# Altium schematic symbol library KAF21BR72D102KT.SchLib: 1 symbol
Pins are listed as number, name and electrical type; pins without a type are passive.

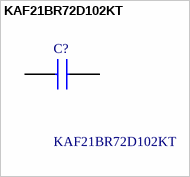
[diagram p0: symbol KAF21BR72D102KT]

## KAF21BR72D102KT
designator C?
Multilayer Ceramic Capacitors MLCC - SMD/SMT 200V 1000pF X7R 0805 10% AEC-Q200 FLEXITERM; Manufacturer_Name: Kyocera AVX; Geometry.Height: 0.94mm; Mouser Part Number: *; Mouser Price/Stock: *; Manufacturer_Part_Number: KAF21BR72D102KT; Datasheet Link: *
footprint CAPC2012X94N
pins: 1, 2